# Altium schematic symbol library Connectors-A1254WR.SchLib: 7 symbols
Pins are listed as number, name and electrical type; pins without a type are passive.

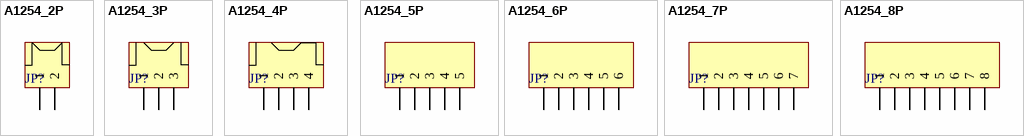
[diagram p0: symbols A1254_2P to A1254_8P]

## A1254_2P
designator JP?
pins: 1, 2

## A1254_3P
designator JP?
pins: 1, 2, 3

## A1254_4P
designator JP?
pins: 1, 2, 3, 4

## A1254_5P
designator JP?
pins: 1, 2, 3, 4, 5

## A1254_6P
designator JP?
pins: 1, 2, 3, 4, 5, 6

## A1254_7P
designator JP?
pins: 1, 2, 3, 4, 5, 6, 7

## A1254_8P
designator JP?
pins: 1, 2, 3, 4, 5, 6, 7, 8